# Altium schematic symbol library LEDSchlib.SchLib: 2 symbols
Pins are listed as number, name and electrical type; pins without a type are passive.

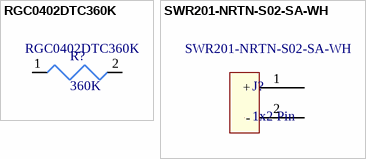
[diagram p0: symbols RGC0402DTC360K to SWR201-NRTN-S02-SA-WH]

## RGC0402DTC360K
designator R?, comment 360K  Manufacturer Part Number: RGC0402DTC360K
Res Thkflm 0402 360K Ohm 0.5% 1/16W 50PPM/ C SMD; Manufacturer: Stackpole Electronics; Power Rating: 63mW; Resistance: 360000R; Supplier 1: Digi-Key; Supplier Part Number 1: RGC0402DTC360KCT-ND; RoHS: Yes; Category: Chip SMD Resistors; Stock 1: 3216; Pricing 1: 1=0.13000, 10=0.12100, 100=0.04640, 1000=0.02039, 2500=0.01761, 5000=0.01576 (USD); Mount: Surface Mount; Case/Package: 0402; Min Operating Temperature: -55°C; Max Operating Temperature: 150°C; Packaging: Tape and Reel; Tolerance: 0.5%; Lead Free: Lead Free; ComponentLink1URL: https://www.seielect.com/catalog/sei-rgc.pdf?src-supplier=Digi-Key; ComponentLink1Description: https://www.seielect.com/catalog/sei-rgc.pdf?src-supplier=Digi-Key
footprint R0805
pins: 1, 2

## SWR201-NRTN-S02-SA-WH
designator J?, comment 1x2 Pin  Manufacturer Part Number: SWR201-NRTN-S02-SA-WH
Wafer: , Tin Overall, Straight w/ Type 1 Kinked End Pins, 1x2 Pos (2 pins); Manufacturer: Sullins; Supplier 1: Digi-Key; Supplier Part Number 1: S9463-ND; RoHS: Yes; Category: Connectors; Stock 1: 156546; Pricing 1: 1=0.11000, 10=0.08500, 100=0.06260, 500=0.05184, 1000=0.04536, 5000=0.03888, 10000=0.03780 (USD); ComponentLink1URL: https://datasheet.ciiva.com/740/swr201-nrtn-sxx-sa-wh-740670.pdf?src-supplier=Digi-Key; ComponentLink1Description: https://datasheet.ciiva.com/740/swr201-nrtn-sxx-sa-wh-740670.pdf?src-supplier=Digi-Key; ComponentLink2URL: https://datasheet.ciiva.com/16492/swr201-nrtn-sa-wh-16492311.pdf?src-supplier=Future+Electronics; ComponentLink2Description: https://datasheet.ciiva.com/16492/swr201-nrtn-sa-wh-16492311.pdf?src-supplier=Future+Electronics
footprint DIP1x2
pins: 1 +, 2 -